# EAGLE library part DF11-6DP (library Tag Reader)
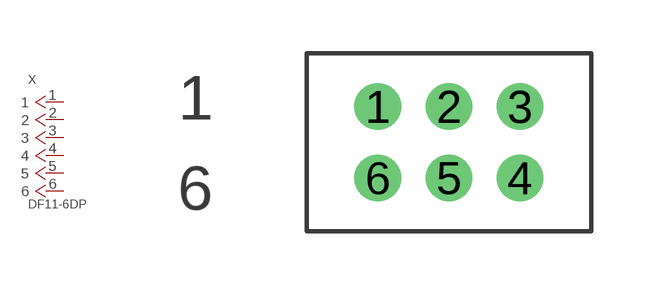
[diagram p1: symbol with the pads of 6_PIN_CONN; footprint 6_PIN_CONN]

Designator prefix X

## DF11-6DP  [6_PIN_CONN]
1  1
2  2
3  3
4  4
5  5
6  6

## Footprint 6_PIN_CONN (pad centres in mm)
drill 0.8: 1 -2,1; 2 0,1; 3 2,1; 4 2,-1; 5 0,-1; 6 -2,-1